# EAGLE library part MOD5270 (library digistation)
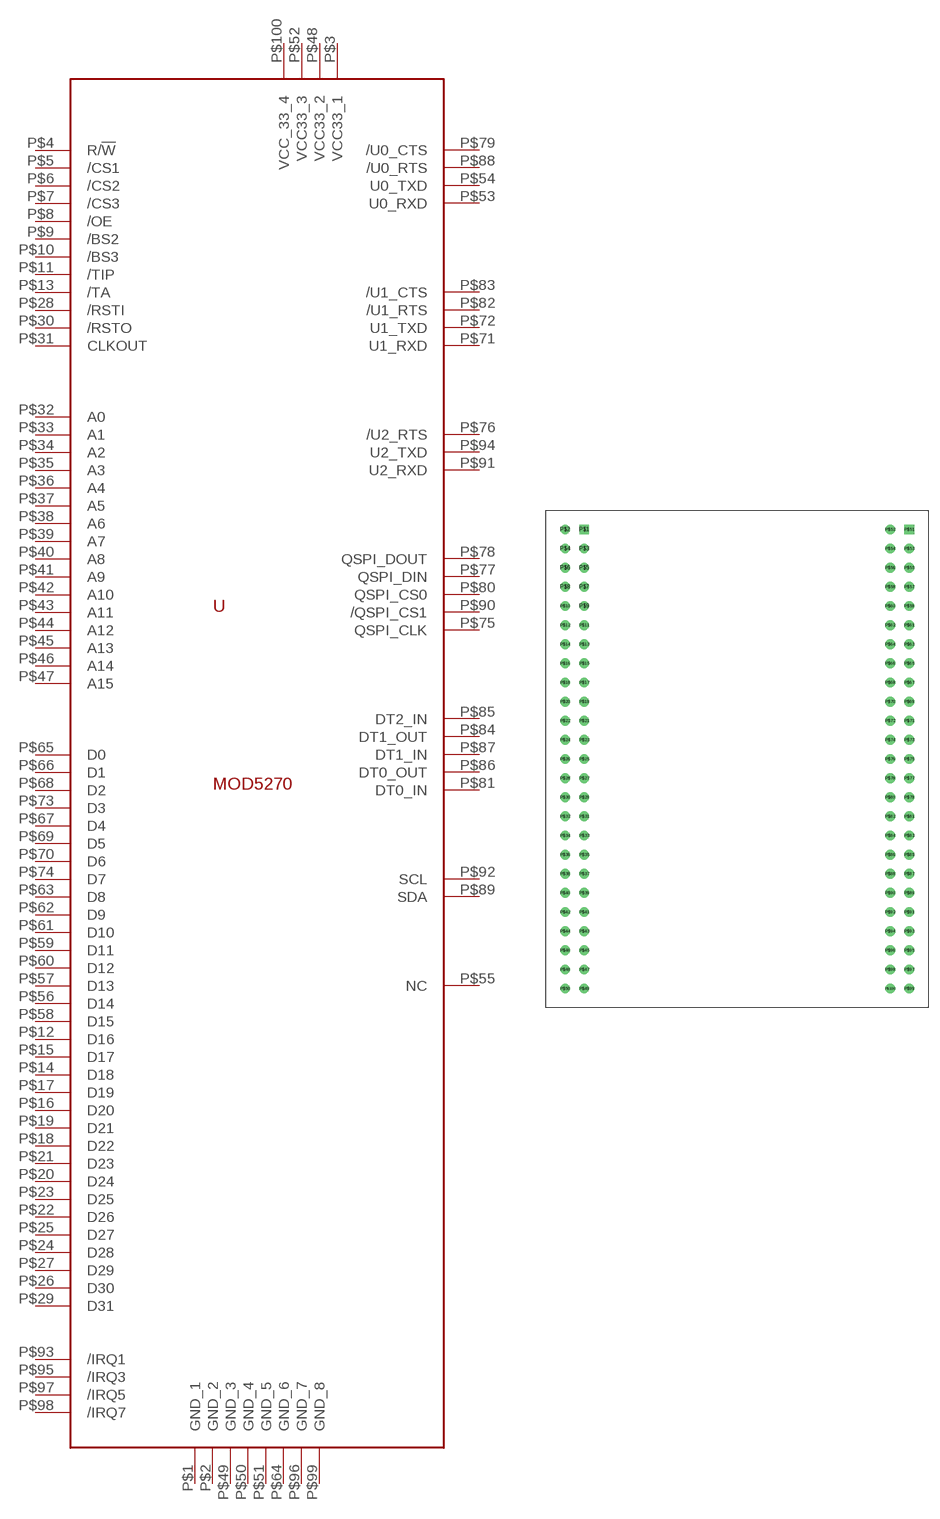
[diagram p4: symbol with the pads of MOD5270; footprint MOD5270]

Designator prefix -

## MOD5270  [MOD5270]
P$1  GND_1
P$2  GND_2
P$3  VCC33_1
P$4  R/!W
P$5  /CS1
P$6  /CS2
P$7  /CS3
P$8  /OE
P$9  /BS2
P$10  /BS3
P$11  /TIP
P$12  D16
P$13  /TA
P$14  D18
P$15  D17
P$16  D20
P$17  D19
P$18  D22
P$19  D21
P$20  D24
P$21  D23
P$22  D26
P$23  D25
P$24  D28
P$25  D27
P$26  D30
P$27  D29
P$28  /RSTI
P$29  D31
P$30  /RSTO
P$31  CLKOUT
P$32  A0
P$33  A1
P$34  A2
P$35  A3
P$36  A4
P$37  A5
P$38  A6
P$39  A7
P$40  A8
P$41  A9
P$42  A10
P$43  A11
P$44  A12
P$45  A13
P$46  A14
P$47  A15
P$48  VCC33_2
P$49  GND_3
P$50  GND_4
P$51  GND_5
P$52  VCC33_3
P$53  U0_RXD
P$54  U0_TXD
P$55  NC
P$56  D14
P$57  D13
P$58  D15
P$59  D11
P$60  D12
P$61  D10
P$62  D9
P$63  D8
P$64  GND_6
P$65  D0
P$66  D1
P$67  D4
P$68  D2
P$69  D5
P$70  D6
P$71  U1_RXD
P$72  U1_TXD
P$73  D3
P$74  D7
P$75  QSPI_CLK
P$76  /U2_RTS
P$77  QSPI_DIN
P$78  QSPI_DOUT
P$79  /U0_CTS
P$80  QSPI_CS0
P$81  DT0_IN
P$82  /U1_RTS
P$83  /U1_CTS
P$84  DT1_OUT
P$85  DT2_IN
P$86  DT0_OUT
P$87  DT1_IN
P$88  /U0_RTS
P$89  SDA
P$90  /QSPI_CS1
P$91  U2_RXD
P$92  SCL
P$93  /IRQ1
P$94  U2_TXD
P$95  /IRQ3
P$96  GND_7
P$97  /IRQ5
P$98  /IRQ7
P$99  GND_8
P$100  VCC_33_4

## Footprint MOD5270 (pad centres in mm)
drill 0.8 square: P$1 -20.32,30.48; P$51 22.86,30.48
drill 0.8 round: P$2 -22.86,30.48; P$3 -20.32,27.94; P$4 -22.86,27.94; P$5 -20.32,25.4; P$6 -22.86,25.4; P$7 -20.32,22.86; P$8 -22.86,22.86; P$9 -20.32,20.32; P$10 -22.86,20.32; P$11 -20.32,17.78; P$12 -22.86,17.78; P$13 -20.32,15.24; P$14 -22.86,15.24; P$15 -20.32,12.7; P$16 -22.86,12.7; P$17 -20.32,10.16; P$18 -22.86,10.16; P$19 -20.32,7.62; P$20 -22.86,7.62; P$21 -20.32,5.08; P$22 -22.86,5.08; P$23 -20.32,2.54; P$24 -22.86,2.54; P$25 -20.32,0; P$26 -22.86,0; P$27 -20.32,-2.54; P$28 -22.86,-2.54; P$29 -20.32,-5.08; P$30 -22.86,-5.08; P$31 -20.32,-7.62; P$32 -22.86,-7.62; P$33 -20.32,-10.16; P$34 -22.86,-10.16; P$35 -20.32,-12.7; P$36 -22.86,-12.7; P$37 -20.32,-15.24; P$38 -22.86,-15.24; P$39 -20.32,-17.78; P$40 -22.86,-17.78; P$41 -20.32,-20.32; P$42 -22.86,-20.32; P$43 -20.32,-22.86; P$44 -22.86,-22.86; P$45 -20.32,-25.4; P$46 -22.86,-25.4; P$47 -20.32,-27.94; P$48 -22.86,-27.94; P$49 -20.32,-30.48; P$50 -22.86,-30.48; P$52 20.32,30.48; P$53 22.86,27.94; P$54 20.32,27.94; P$55 22.86,25.4; P$56 20.32,25.4; P$57 22.86,22.86; P$58 20.32,22.86; P$59 22.86,20.32; P$60 20.32,20.32; P$61 22.86,17.78; P$62 20.32,17.78; P$63 22.86,15.24; P$64 20.32,15.24; P$65 22.86,12.7; P$66 20.32,12.7; P$67 22.86,10.16; P$68 20.32,10.16; P$69 22.86,7.62; P$70 20.32,7.62; P$71 22.86,5.08; P$72 20.32,5.08; P$73 22.86,2.54; P$74 20.32,2.54; P$75 22.86,0; P$76 20.32,0; P$77 22.86,-2.54; P$78 20.32,-2.54; P$79 22.86,-5.08; P$80 20.32,-5.08; P$81 22.86,-7.62; P$82 20.32,-7.62; P$83 22.86,-10.16; P$84 20.32,-10.16; P$85 22.86,-12.7; P$86 20.32,-12.7; P$87 22.86,-15.24; P$88 20.32,-15.24; P$89 22.86,-17.78; P$90 20.32,-17.78; P$91 22.86,-20.32; P$92 20.32,-20.32; P$93 22.86,-22.86; P$94 20.32,-22.86; P$95 22.86,-25.4; P$96 20.32,-25.4; P$97 22.86,-27.94; P$98 20.32,-27.94; P$99 22.86,-30.48; P$100 20.32,-30.48